# Altium footprint library DTTT_loudspker_PCB.PcbLib: 11 footprints
Each footprint in its own frame and in the unit in brackets; x right, y up, seen from the top. Pads: shape width x height; smd on the part's side, far side on the other; paste and mask are expansions set on the pad; w line width, h text height; cw(c..) or ccw(c..) is an arc to the next point about the centre after c.
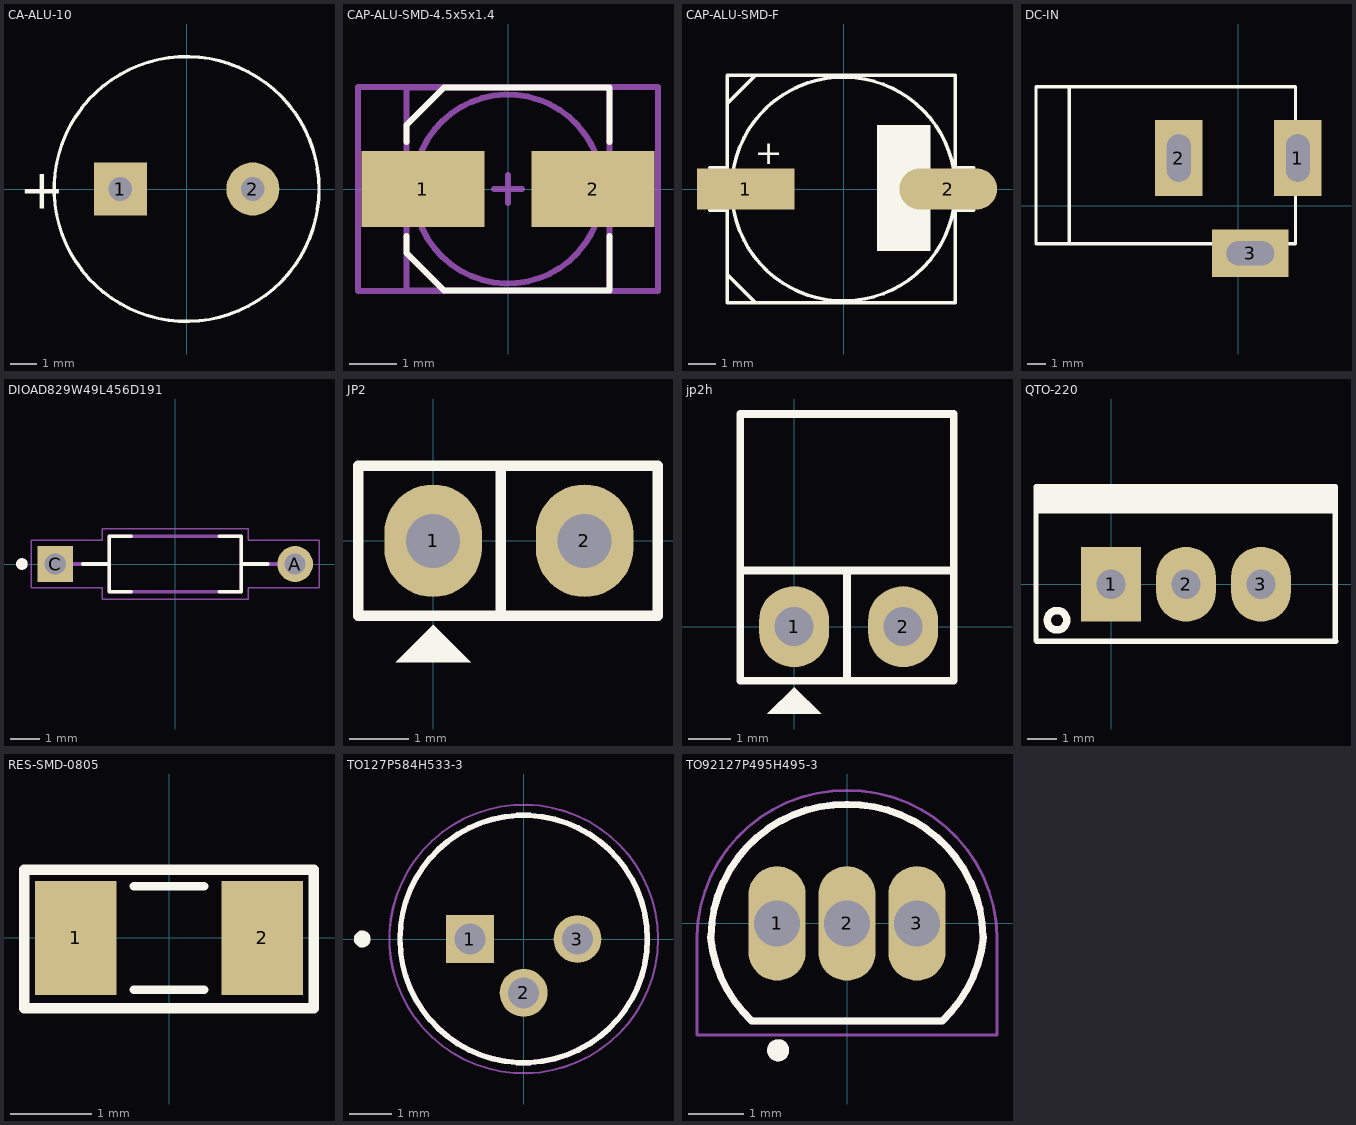
[diagram p0: the footprints below, top view; thin cyan lines are the x and y axes]

## CA-ALU-10 [mm]
pads (2):
  rect 2x2 hole 0.9: 1(-2.5,0)
  round 2 hole 0.9: 2(2.5,0)
Top Overlay:
  circle w0.127: c0,0 r5
  text "+" at -6.325,-0.737 h1.5
3D body "10x20.step": height 20.52, standoff -2.7, extent -5.08,-5.08 5.08,5.08

## CAP-ALU-SMD-4.5x5x1.4 [mm]
pads (2):
  rect 2.6x1.6 smd: 1(-1.8,0) 2(1.8,0)
Top Overlay:
  lines w0.127: -2.15,-1 -2.15,-1.35 -1.35,-2.15 2.15,-2.15 2.15,-1 ; -2.15,1 -2.15,1.35 -1.35,2.15 2.15,2.15 2.15,1
Mechanical 13:
  circle w0.127: c0,0 r2
  lines w0.127: -2.15,-2.15 -2.15,2.15 2.15,2.15 2.15,-2.15 -2.15,-2.15
Mechanical 15:
  lines w0.127: -0.3,0 0.3,0 ; 0,-0.3 0,0.3 ; -3.175,-2.159 -3.175,2.159 3.175,2.159 3.175,-2.159 -3.175,-2.159
3D body: height 5.45, standoff -0.05, extent -2.5,-2.15 2.5,2.15

## CAP-ALU-SMD-F [mil]
pads (2):
  rect 140x59.06 smd: 1(-140,0)
  oval 140x59.06 smd: 2(150,0)
Top Overlay:
  circle w5: c0,0 r160.44
  rectangle: 48.23,-88.58 125,91.54
  lines w5: -191.93,-30.51 -166.34,-30.51 ; -191.93,30.51 -166.34,30.51 ; -166.34,-104.33 -166.34,0 ; -166.34,104.33 -166.34,0 ; -165.35,-124.02 -125.98,-163.39 ; -165.35,124.02 -125.98,163.39 ; 160.43,-30.51 187.01,-30.51 ; 160.44,0 ccw(c0,0) 160.43,0.99 ; 160.43,30.51 187.01,30.51 ; -166.34,-129.92 -166.34,-129.92 ; -166.34,-129.92 -166.34,0 ; -166.34,0 -166.34,163.39 160.43,163.39 160.43,0.98 ; -166.34,0 -166.34,129.92 ; -166.34,0 -166.34,-163.39 160.43,-163.39 160.43,-0.98 ; -166.34,129.92 -166.34,129.92 ; 160.43,-0.98 160.43,-0.98 ; 160.43,0.98 160.43,0.98
  text "+" at -126.97,35.43 h35
3D body "User Library-ALU-F.STEP": height 401.57, standoff 0, extent -194.89,-163.39 194.88,163.38

## DC-IN [mil]
pads (3):
  rect 100x160 hole 50 slot 100 at 90 deg: 1(125,100) 2(-125,100)
  rect 160x100 hole 50 slot 100 at 0 deg: 3(25,-100)
Top Overlay:
  lines w7: -355,-80 -355,250 ; -425,-80 120,-80 120,250 -425,250 -425,-80
3D body "SW3dPS-dc range - dc connector[4840.2201].STEP": height 433.67, standoff -137.2, extent -410.35,-105.12 134,269.12

## DIOAD829W49L456D191 [mm]
pads (2):
  round 1.238 hole 0.73: A(4.146,0)
  rect 1.238x1.238 / inner round 1.238 / far side rect 1.238x1.238 hole 0.73: C(-4.146,0)
Top Overlay:
  circle w0.2: c-5.3,0 r0.1
  lines w0.127: -3.2,0 -2.28,0 ; -2.28,-0.96 -1.52,-0.96 ; -2.28,-0.95 -2.28,0 ; -1.52,0.96 -2.28,0.96 -2.28,0 ; 1.52,-0.96 2.28,-0.96 2.28,0 ; 1.52,0.96 2.28,0.96 ; 2.28,0.95 2.28,0 ; 3.2,0 2.28,0
Mechanical 13:
  circle w0.2: c-5.3,0 r0.1
  lines w0.127: -3.581,0 -2.28,0 ; 3.581,0 2.28,0 ; -2.28,0 -2.28,-0.96 2.28,-0.96 2.28,0 ; -2.28,0 -2.28,0.96 2.28,0.96 2.28,0
Mechanical 15:
  lines w0.05: -4.97,-0.815 -4.97,0.815 -2.53,0.815 -2.53,1.21 2.53,1.21 2.53,0.815 4.97,0.815 4.97,-0.815 2.53,-0.815 2.53,-1.21 -2.53,-1.21 -2.53,-0.815 -4.97,-0.815
3D body "step_temp.STEP": height 1.91, standoff 0, extent -27.303,-0.955 27.303,0.955

## JP2 [mil]
pads (2):
  oval 65x75 hole 36: 1(0,0) 2(101,0)
Top Overlay:
  region: 0,-56 -25,-81 25,-81
  lines w7: 45,-50 45,49 ; -50,-50 150,-50 150,50 -50,50 -50,-50
3D body "JP2.stp": height 323.44, standoff -117.51, extent -48.03,-50 148.03,48.43

## jp2h [mil]
pads (2):
  oval 65x75 hole 36: 1(0,0) 2(101,0)
Top Overlay:
  region: 0,-56 -25,-81 25,-81
  lines w7: 49,-50 49,49 ; 148,54 148,197 -50,197 -50,52 ; -50,52 -50,-50 148,-50 148,52 -50,52
3D body "JP2H.stp": height 99.03, standoff -93.89, extent -44.13,-14.29 148,424.29

## QTO-220 [mil]
pads (3):
  rect 80x100 hole 39: 1(0,0)
  oval 80x100 hole 39: 2(100,0) 3(200,0)
Top Overlay:
  circle w10: c-72.03,-48 r12.97
  rectangle: -99,94 300,130
  lines w7: 298,107 299,93 ; -100,-75 -100,130 299,130 299,-75 300,-76 -76,-76 -99,-76 -100,-75
3D body "SW3dPS-TO220AB.STEP": height 754.72, standoff -400, extent -119,-64 322.46,120.65

## RES-SMD-0805 [mil]
pads (2):
  rect 39.37x55 smd: 1(-45,0) 2(45,0)
Top Overlay:
  lines w4: -17,-25 17,-25 ; -17,25 17,25
  lines w5: -70,-34 -70,33 70,33 70,-34 -70,-34
3D body "SW3dPS-0805 SMD Resistor.STEP": height 31.39, standoff 0.6, extent -39.36,-24.6 39.38,24.61

## TO127P584H533-3 [mm]
pads (3):
  rect 1.13x1.13 hole 0.73: 1(-1.27,0)
  round 1.13 hole 0.73: 2(0,-1.27) 3(1.27,0)
Top Overlay:
  circle w0.2: c-3.81,0 r0.1
  circle w0.127: c0,0 r2.92
Mechanical 13:
  circle w0.127: c0,0 r2.92
Mechanical 15:
  circle w0.05: c0,0 r3.17

## TO92127P495H495-3 [mm]
pads (3):
  oval 1.04x2.08 hole 0.84: 1(-1.27,0) 2(0,0) 3(1.27,0)
Top Overlay:
  circle w0.2: c-1.25,-2.305 r0.1
  lines w0.127: -2.476,-0.242 ccw(c-0.116,-0.036) -1.732,-1.769 ; -2.475,-0.24 cw(c-0.028,-0.282) 0.015,2.165 ; -1.725,-1.775 1.725,-1.775 ; -0.015,2.165 cw(c0.028,-0.282) 2.475,-0.24 ; 1.732,-1.769 ccw(c0.116,-0.036) 2.476,-0.242
Mechanical 13:
  circle w0.2: c-1.25,-2.305 r0.1
  lines w0.127: -2.476,-0.242 ccw(c-0.116,-0.036) -1.732,-1.769 ; -2.475,-0.24 cw(c-0.028,-0.282) 0.015,2.165 ; -1.725,-1.775 1.725,-1.775 ; -0.015,2.165 cw(c0.028,-0.282) 2.475,-0.24 ; 1.732,-1.769 ccw(c0.116,-0.036) 2.476,-0.242
Mechanical 15:
  lines w0.05: -2.725,-0.255 -2.725,-2.025 2.725,-2.025 2.725,-0.255 ; -2.725,-0.235 cw(c-0.028,-0.282) 0.02,2.415 ; -0.02,2.415 cw(c0.028,-0.282) 2.725,-0.235
3D body "step_temp.STEP": height 20.44, standoff 0, extent -2.276,-1.548 2.283,2.285